# Altium footprint library PINS.PcbLib: 2 footprints
Each footprint in its own frame and in the unit in brackets; x right, y up, seen from the top. Pads: shape width x height; smd on the part's side, far side on the other; paste and mask are expansions set on the pad; w line width, h text height; cw(c..) or ccw(c..) is an arc to the next point about the centre after c.
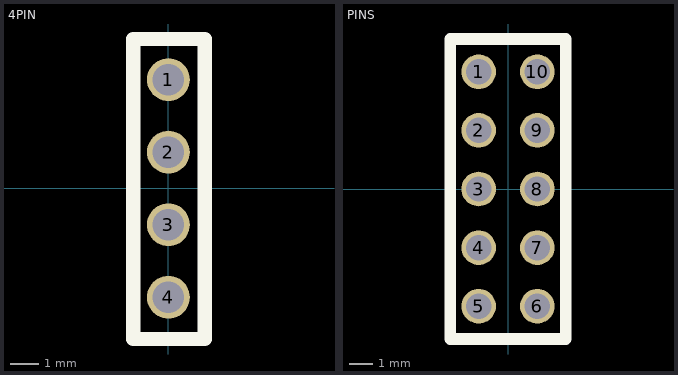
[diagram p0: the footprints below, top view; thin cyan lines are the x and y axes]

## 4PIN [mm]
pads (4):
  round 1.5 hole 1.1: 1(0,3.81) 2(0,1.27) 3(0,-1.27) 4(0,-3.81)
Top Overlay:
  lines w0.5: -1.23,-5.27 1.27,-5.27 1.27,5.23 -1.23,5.23 -1.23,-5.27

## PINS [mm]
pads (10):
  round 1.5 hole 1.1: 1(-1.27,5.08) 2(-1.27,2.54) 3(-1.27,0) 4(-1.27,-2.54) 5(-1.27,-5.08) 6(1.27,-5.08) 7(1.27,-2.54) 8(1.27,0) 9(1.27,2.54) 10(1.27,5.08)
Top Overlay:
  lines w0.5: -2.5,-6.5 -2.5,6.5 2.5,6.5 2.5,-6.5 -2.5,-6.5